# Altium schematic symbol library bluetooth_clock.SchLib: 12 symbols
Pins are listed as number, name and electrical type; pins without a type are passive.

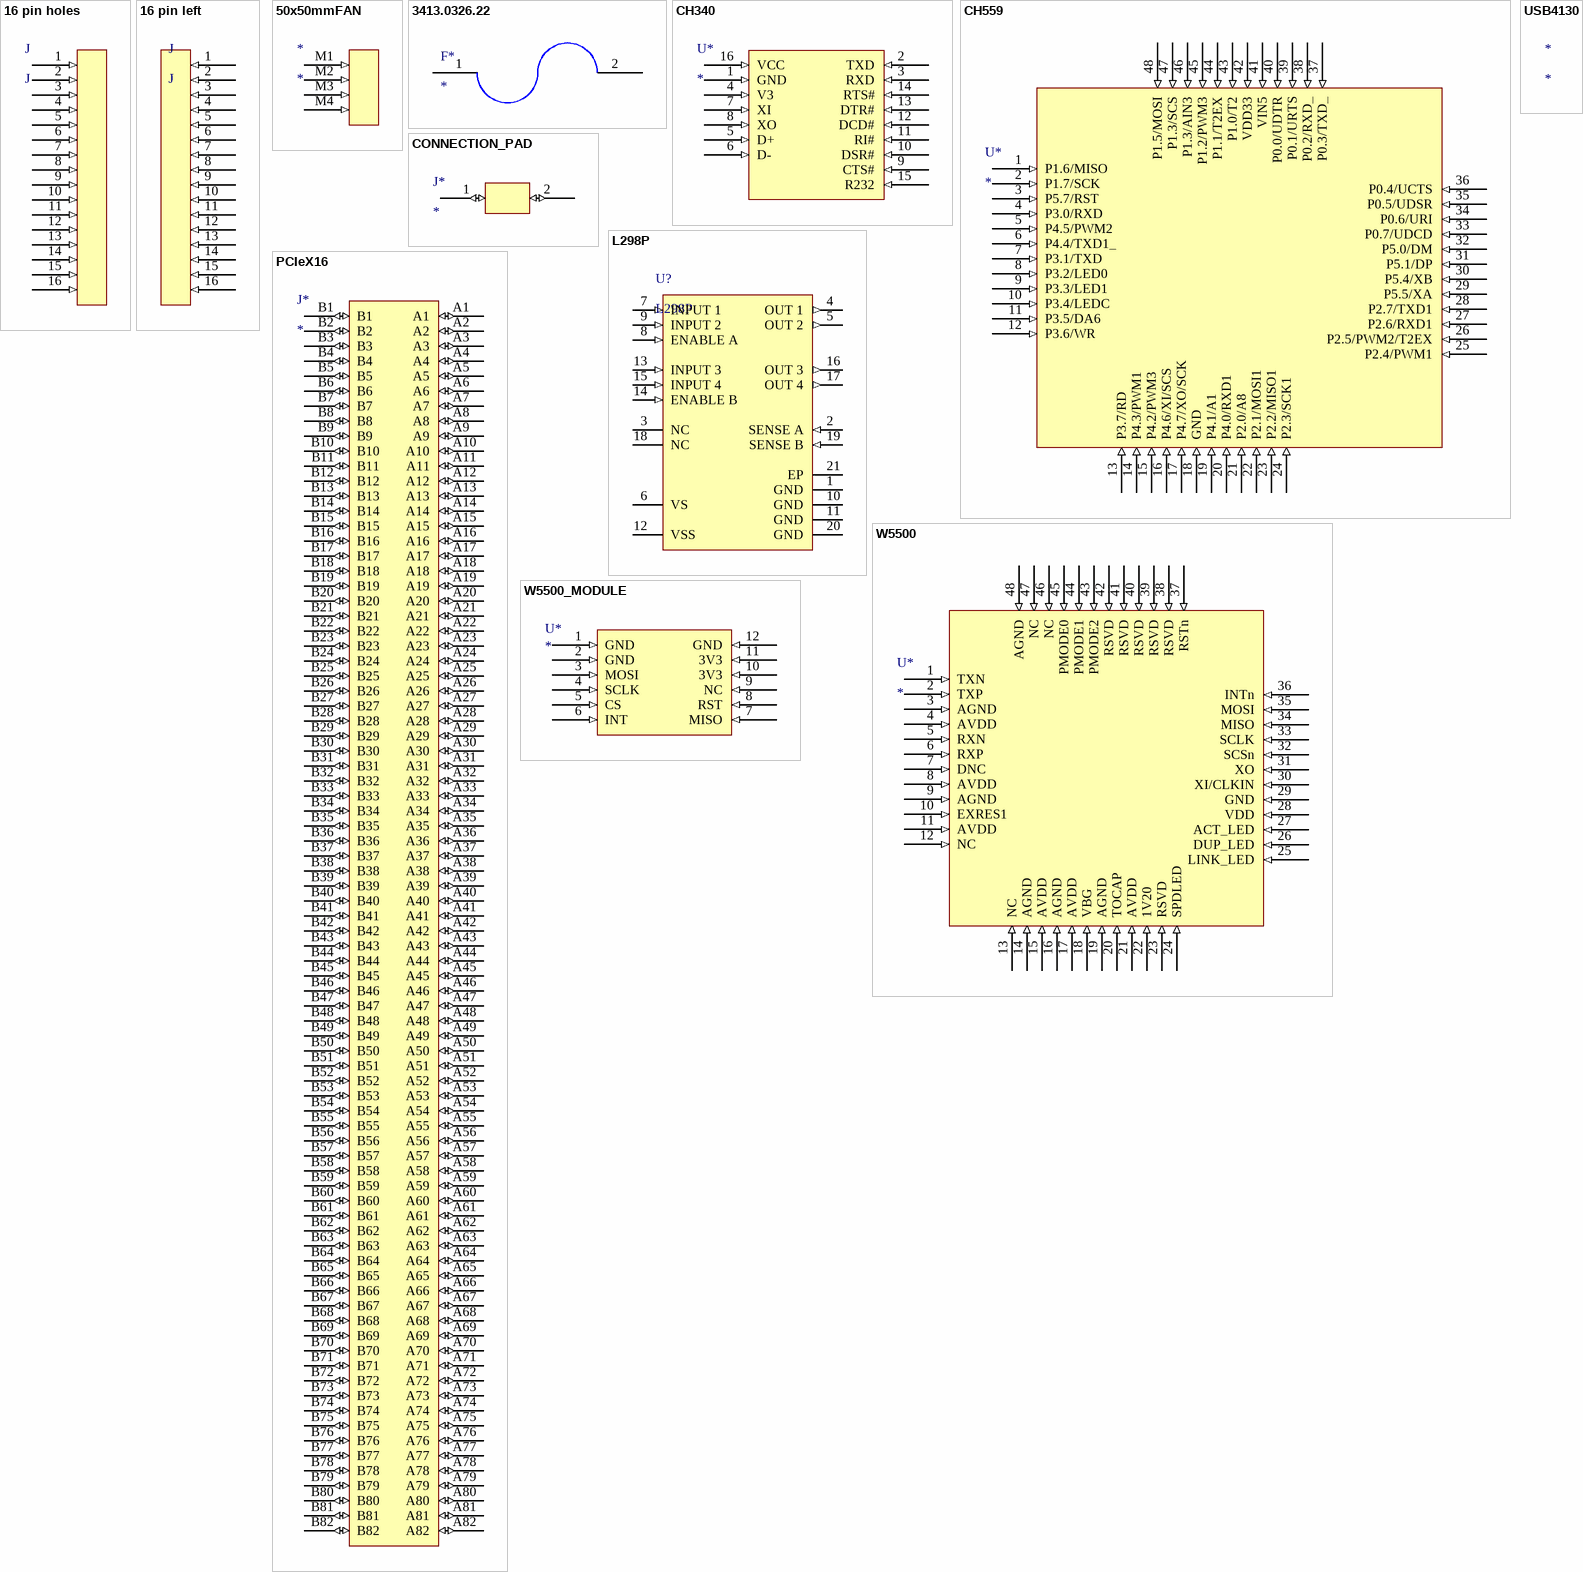
[diagram p0: symbols 16 pin holes to W5500_MODULE]

## 16 pin holes
designator J, comment J
footprint 16 pin holes
pins: 1 (in), 2 (in), 3 (in), 4 (in), 5 (in), 6 (in), 7 (in), 8 (in), 9 (in), 10 (in), 11 (in), 12 (in), 13 (in), 14 (in), 15 (in), 16 (in)

## 16 pin left
designator J, comment J
footprint 16 pin holes
pins: 1 (in), 2 (in), 3 (in), 4 (in), 5 (in), 6 (in), 7 (in), 8 (in), 9 (in), 10 (in), 11 (in), 12 (in), 13 (in), 14 (in), 15 (in), 16 (in)

## 50x50mmFAN
designator *
footprint 50mmX50mmFAN
pins: M1 (in), M2 (in), M3 (in), M4 (in)

## 3413.0326.22
designator F*
Fuse 7A, 32VAC, 63VDC, 1206 (3216)
footprint 3413.0326.22
pins: 1, 2

## CH340
designator U*
USB-UART
footprint CH340
pins: 1 GND (in), 2 TXD (in), 3 RXD (in), 4 V3 (in), 5 D+ (in), 6 D- (in), 7 XI (in), 8 XO (in), 9 CTS# (in), 10 DSR# (in), 11 RI# (in), 12 DCD# (in), 13 DTR# (in), 14 RTS# (in), 15 R232 (in), 16 VCC (in)

## CH559
designator U*
DUAL USB-HOST 2.0
footprint CH559L
pins: 1 P1.6/MISO (in), 2 P1.7/SCK (in), 3 P5.7/RST (in), 4 P3.0/RXD (in), 5 P4.5/PWM2 (in), 6 P4.4/TXD1_ (in), 7 P3.1/TXD (in), 8 P3.2/LED0 (in), 9 P3.3/LED1 (in), 10 P3.4/LEDC (in), 11 P3.5/DA6 (in), 12 P3.6/WR (in), 13 P3.7/RD (in), 14 P4.3/PWM1 (in), 15 P4.2/PWM3 (in), 16 P4.6/XI/SCS (in), 17 P4.7/XO/SCK (in), 18 GND (in), 19 P4.1/A1 (in), 20 P4.0/RXD1 (in), 21 P2.0/A8 (in), 22 P2.1/MOSI1 (in), 23 P2.2/MISO1 (in), 24 P2.3/SCK1 (in), 25 P2.4/PWM1 (in), 26 P2.5/PWM2/T2EX (in), 27 P2.6/RXD1 (in), 28 P2.7/TXD1 (in), 29 P5.5/XA (in), 30 P5.4/XB (in), 31 P5.1/DP (in), 32 P5.0/DM (in), 33 P0.7/UDCD (in), 34 P0.6/URI (in), 35 P0.5/UDSR (in), 36 P0.4/UCTS (in), 37 P0.3/TXD_ (in), 38 P0.2/RXD_ (in), 39 P0.1/URTS (in), 40 P0.0/UDTR (in), 41 VIN5 (in), 42 VDD33 (in), 43 P1.0/T2 (in), 44 P1.1/T2EX (in), 45 P1.2/PWM3 (in), 46 P1.3/AIN3 (in), 47 P1.3/SCS (in), 48 P1.5/MOSI (in)

## CONNECTION_PAD
designator J*
PCB Connection Pad
footprint CONNECTION_PAD
pins: 1 (io), 2 (io)

## L298P
designator U?
Dual Full-Bridge Driver, 4.5 to 7 V, -25 to 130 degC, 20-Pin SOIC, RoHS, Tube; Manufacturer: STMicroelectronics; Output Current: 2A; Collector Emitter Voltage (VCEO): 46V; Min Supply Voltage: 4.8V; Max Collector Current: 3A; Supply Voltage: 42V; Number of Channels: 2; Operating Supply Current: 13mA; Packaging: Rail/Tube; Package Reference: PowerSO20; Width: 11.1mm; Radiation Hardening: No; Height: 3.3mm; Lead Free: LeadFree; Datasheet Version: 36526.0; Datasheet URL: http://www.st.com/content/ccc/resource/technical/document/datasheet/82/cc/3f/39/0a/29/4d/f0/CD00000240.pdf/files/CD00000240.pdf/jcr:content/translations/en.CD00000240.pdf; RoHSCompliant: true; Max Supply Voltage: 46V; Output Current per Channel: 2A; Package Description: 20-Pin Small Outline Integrated Circuits, Body 15.9 x 11 mm, Pitch 1.27 mm; Case/Package: SOIC; Min Operating Temperature: -25degC; Number of Pins: 20; Length: 16mm; Max Output Current: 3A; Package Quantity: 31; Max Operating Temperature: 130degC; Mount: SurfaceMount; Manufacturer URL: http://www.st.com/
footprint L298P (SOIC, 20-Leads, Body 16x11.1mm, Pitch 1.27mm, Thermal Pad 16x6.2mm, IPC Low Density)
pins: 1 GND (power) "Ground.", 2 SENSE A (in) "Between this pin and ground is connected the sense resistor to control the current of the load.", 3 NC "Not Connected", 4 OUT 1 (out) "Outputs of the Bridge A; the current that flows through the load connected between these two pins is monitored at pin 1.", 5 OUT 2 (out) "Outputs of the Bridge A; the current that flows through the load connected between these two pins is monitored at pin 1.", 6 VS (power) "Supply Voltage for the Power Output Stages. A non-inductive 100nF capacitor must be connected between this pin and ground.", 7 INPUT 1 (in) "TTL Compatible Inputs of the Bridge A.", 8 ENABLE A (in) "TTL Compatible Enable Input: the L state disables the bridge A (enable A) and/or the bridge B (enable B).", 9 INPUT 2 (in) "TTL Compatible Inputs of the Bridge A.", 10 GND (power) "Ground.", 11 GND (power) "Ground.", 12 VSS (power) "Supply Voltage for the Logic Blocks. A100nF capacitor must be connected between this pin and ground.", 13 INPUT 3 (in) "TTL Compatible Inputs of the Bridge B.", 14 ENABLE B (in) "TTL Compatible Enable Input: the L state disables the bridge A (enable A) and/or the bridge B (enable B).", 15 INPUT 4 (in) "TTL Compatible Inputs of the Bridge B.", 16 OUT 3 (out) "Outputs of the Bridge B. The current that flows through the load connected between these two pins is monitored at pin 15.", 17 OUT 4 (out) "Outputs of the Bridge B. The current that flows through the load connected between these two pins is monitored at pin 15.", 18 NC "Not Connected", 19 SENSE B (in) "Between this pin and ground is connected the sense resistor to control the current of the load.", 20 GND (power) "Ground.", 21 EP "PAD"

## PCIeX16
designator J*
Golden finger, PCIeX16, Dual, Opposite, Pitch 1mm, 164-Position
footprint PCIeX16
pins: A1 (io), A2 (io), A3 (io), A4 (io), A5 (io), A6 (io), A7 (io), A8 (io), A9 (io), A10 (io), A11 (io), A12 (io), A13 (io), A14 (io), A15 (io), A16 (io), A17 (io), A18 (io), A19 (io), A20 (io), A21 (io), A22 (io), A23 (io), A24 (io), A25 (io), A26 (io), A27 (io), A28 (io), A29 (io), A30 (io), A31 (io), A32 (io), A33 (io), A34 (io), A35 (io), A36 (io), A37 (io), A38 (io), A39 (io), A40 (io), A41 (io), A42 (io), A43 (io), A44 (io), A45 (io), A46 (io), A47 (io), A48 (io), A49 (io), A50 (io), A51 (io), A52 (io), A53 (io), A54 (io), A55 (io), A56 (io), A57 (io), A58 (io), A59 (io), A60 (io), A61 (io), A62 (io), A63 (io), A64 (io), A65 (io), A66 (io), A67 (io), A68 (io), A69 (io), A70 (io), A71 (io), A72 (io), A73 (io), A74 (io), A75 (io), A76 (io), A77 (io), A78 (io), A79 (io), A80 (io), A81 (io), A82 (io), B1 (io), B2 (io), B3 (io), B4 (io), B5 (io), B6 (io), B7 (io), B8 (io), B9 (io), B10 (io), B11 (io), B12 (io), B13 (io), B14 (io), B15 (io), B16 (io), B17 (io), B18 (io), B19 (io), B20 (io), B21 (io), B22 (io), B23 (io), B24 (io), B25 (io), B26 (io), B27 (io), B28 (io), B29 (io), B30 (io), B31 (io), B32 (io), B33 (io), B34 (io), B35 (io), B36 (io), B37 (io), B38 (io), B39 (io), B40 (io), B41 (io), B42 (io), B43 (io), B44 (io), B45 (io), B46 (io), B47 (io), B48 (io), B49 (io), B50 (io), B51 (io), B52 (io), B53 (io), B54 (io), B55 (io), B56 (io), B57 (io), B58 (io), B59 (io), B60 (io), B61 (io), B62 (io), B63 (io), B64 (io), B65 (io), B66 (io), B67 (io), B68 (io), B69 (io), B70 (io), B71 (io), B72 (io), B73 (io), B74 (io), B75 (io), B76 (io), B77 (io), B78 (io), B79 (io), B80 (io), B81 (io), B82 (io)

## USB4130
designator *

## W5500
designator U*
W5500 10/100 ETHERNET
footprint W5500
pins: 1 TXN (in), 2 TXP (in), 3 AGND (in), 4 AVDD (in), 5 RXN (in), 6 RXP (in), 7 DNC (in), 8 AVDD (in), 9 AGND (in), 10 EXRES1 (in), 11 AVDD (in), 12 NC (in), 13 NC (in), 14 AGND (in), 15 AVDD (in), 16 AGND (in), 17 AVDD (in), 18 VBG (in), 19 AGND (in), 20 TOCAP (in), 21 AVDD (in), 22 1V20 (in), 23 RSVD (in), 24 SPDLED (in), 25 LINK_LED (in), 26 DUP_LED (in), 27 ACT_LED (in), 28 VDD (in), 29 GND (in), 30 XI/CLKIN (in), 31 XO (in), 32 SCSn (in), 33 SCLK (in), 34 MISO (in), 35 MOSI (in), 36 INTn (in), 37 RSTn (in), 38 RSVD (in), 39 RSVD (in), 40 RSVD (in), 41 RSVD (in), 42 RSVD (in), 43 PMODE2 (in), 44 PMODE1 (in), 45 PMODE0 (in), 46 NC (in), 47 NC (in), 48 AGND (in)

## W5500_MODULE
designator U*
footprint W5500_MODULE
pins: 1 GND (in), 2 GND (in), 3 MOSI (in), 4 SCLK (in), 5 CS (in), 6 INT (in), 7 MISO (in), 8 RST (in), 9 NC (in), 10 3V3 (in), 11 3V3 (in), 12 GND (in)